# EAGLE library part BMP581 (library BMP581)
Pressure Sensor 4.35PSI ~ 18.13PSI (30kPa ~ 125kPa) Absolute 10-WFLGA Source: Datasheet <https://www.bosch-sensortec.com/media/boschsensortec/downloads/datasheets/bst-bmp581-ds004.pdf>
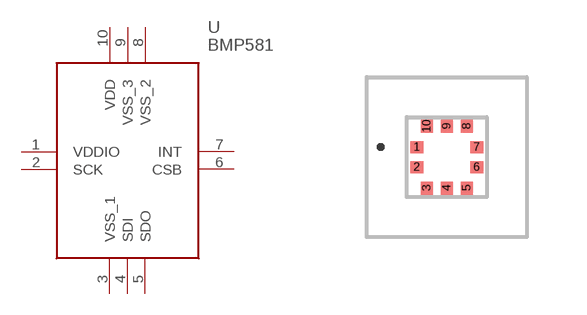
[diagram p0: symbol with the pads of BMP581; footprint BMP581]

Designator prefix U

## BMP581 (Description: Pressure Sensor 4.35PSI ~ 18.13PSI (30kPa ~ 125kPa) Absolute 10-WFLGA; Height: 0.8mm; Manufacturer_Name: BOSCH; Manufacturer_Part_Number: BMP581; Mouser_Part_Number: 262-BMP581; Mouser_Price-Stock: https://www.mouser.co.uk/ProductDetail/Bosch-Sensortec/BMP581?qs=Li%252BoUPsLEntPL9tlFmcgXg%3D%3D)  [BMP581]
1  VDDIO
2  SCK
3  VSS_1
4  SDI
5  SDO
6  CSB
7  INT
8  VSS_2
9  VSS_3
10  VDD

## Footprint BMP581 (pad centres in mm)
BMP581-7
smd 0.325 x 0.3: 1 -0.75,0.25; 2 -0.75,-0.25; 6 0.75,-0.25; 7 0.75,0.25
smd 0.3 x 0.325: 3 -0.5,-0.775; 4 0,-0.775; 5 0.5,-0.775; 8 0.5,0.775; 9 0,0.775; 10 -0.5,0.775